# Altium schematic symbol library CAP,Film,100nF,250VDC,Radial.Schlib: 1 symbol
Pins are listed as number, name and electrical type; pins without a type are passive.

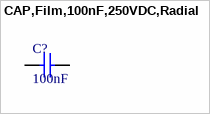
[diagram p0: symbol CAP,Film,100nF,250VDC,Radial]

## CAP,Film,100nF,250VDC,Radial
designator C?, comment 100nF
0.1µF Film Capacitor  250V Polyester, Metallized Radial
pins: 1, 2